# EAGLE library part TXU0204QPWRQ1 (library TXU0204QPWRQ1)
Translation - Voltage Levels Automotive four channel unidirectional level shifter Source: Datasheet <https://www.ti.com/lit/ds/symlink/txu0204-q1.pdf?ts=1625421040885&ref_url=https%3A%2F%2Fwww.ti.com%2Fsitesearch%2Fdocs%2Funiversalsearch.tsp%3FlangPref%3Den-US%26searchTerm%3DTXU0204QPWRQ1%26nr%3D3>
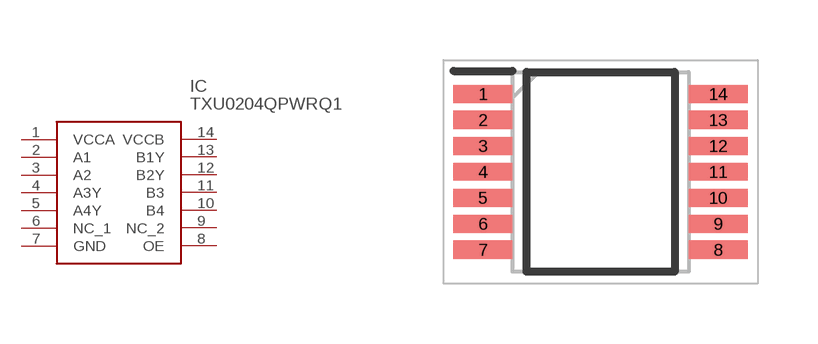
[diagram p0: symbol with the pads of SOP65P640X120-14N; footprint SOP65P640X120-14N]

Designator prefix IC

## TXU0204QPWRQ1 (Arrow_Part_Number: TXU0204QPWRQ1; Arrow_Price-Stock: https://www.arrow.com/en/products/txu0204qpwrq1/texas-instruments?region=nac; Description: Translation - Voltage Levels Automotive four channel unidirectional level shifter; Height: 1.2mm; Manufacturer_Name: Texas Instruments; Manufacturer_Part_Number: TXU0204QPWRQ1; Mouser_Part_Number: 595-TXU0204QPWRQ1; Mouser_Price-Stock: https://www.mouser.co.uk/ProductDetail/Texas-Instruments/TXU0204QPWRQ1?qs=QNEnbhJQKvbo%252BW7%2Fo1U3Qg%3D%3D)  [SOP65P640X120-14N]
1  VCCA
2  A1
3  A2
4  A3Y
5  A4Y
6  NC_1
7  GND
8  OE
9  NC_2
10  B4
11  B3
12  B2Y
13  B1Y
14  VCCB

## Footprint SOP65P640X120-14N (pad centres in mm)
PW (R-PDSO-G14)
smd 1.475 x 0.45: 1 -2.938,1.95; 2 -2.938,1.3; 3 -2.938,0.65; 4 -2.938,0; 5 -2.938,-0.65; 6 -2.938,-1.3; 7 -2.938,-1.95; 8 2.938,-1.95; 9 2.938,-1.3; 10 2.938,-0.65; 11 2.938,0; 12 2.938,0.65; 13 2.938,1.3; 14 2.938,1.95